# Altium footprint library Connector_Samtec_HLE_SMD.PcbLib: 290 footprints (part 6 of 24)
Each footprint in its own frame and in the unit in brackets; x right, y up, seen from the top. Pads: shape width x height; smd on the part's side, far side on the other; paste and mask are expansions set on the pad; w line width, h text height; cw(c..) or ccw(c..) is an arc to the next point about the centre after c.
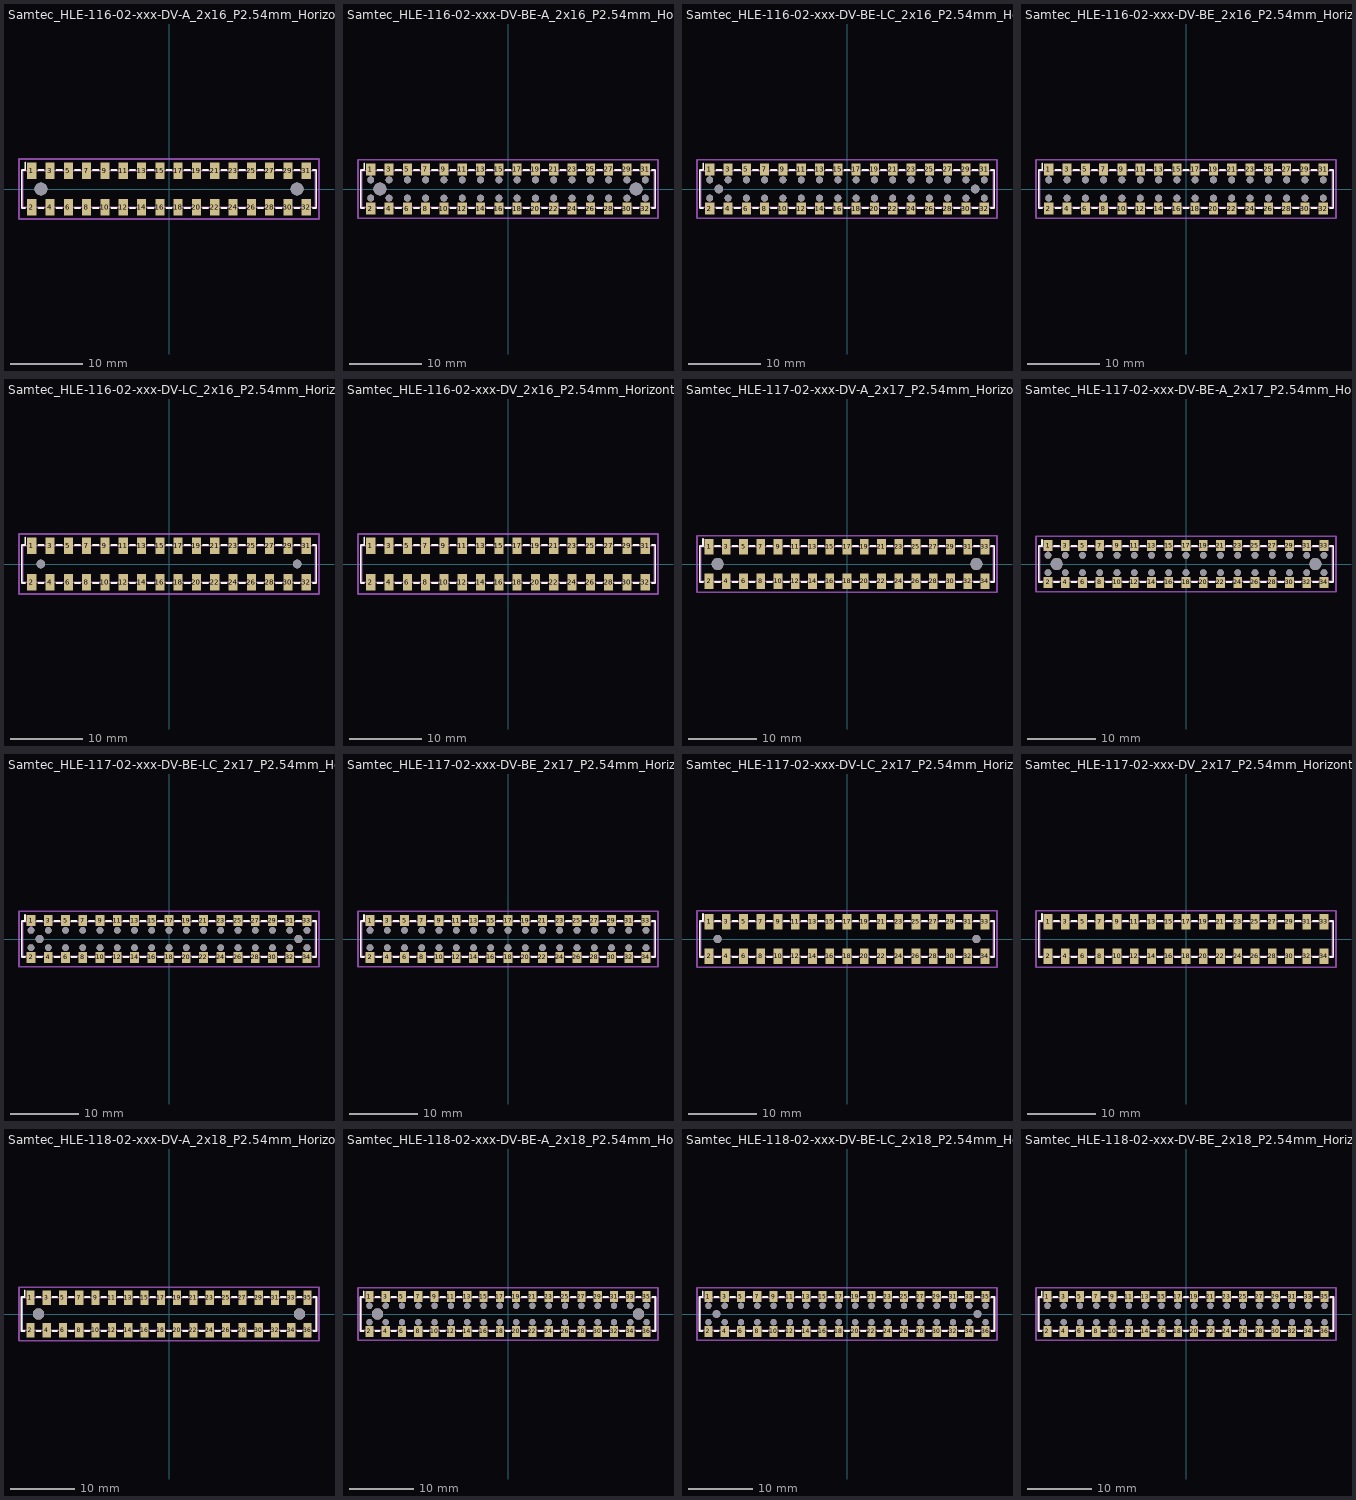
[diagram p5: the footprints below, top view; thin cyan lines are the x and y axes]

## Samtec_HLE-116-02-xxx-DV-A_2x16_P2.54mm_Horizontal [mm]
pads (34):
  rect 1.27x2.29 smd: 1(-19.05,2.525) 2(-19.05,-2.525) 3(-16.51,2.525) 4(-16.51,-2.525) 5(-13.97,2.525) 6(-13.97,-2.525) 7(-11.43,2.525) 8(-11.43,-2.525) 9(-8.89,2.525) 10(-8.89,-2.525) 11(-6.35,2.525) 12(-6.35,-2.525) 13(-3.81,2.525) 14(-3.81,-2.525) 15(-1.27,2.525) 16(-1.27,-2.525) 17(1.27,2.525) 18(1.27,-2.525) 19(3.81,2.525) 20(3.81,-2.525) 21(6.35,2.525) 22(6.35,-2.525) 23(8.89,2.525) 24(8.89,-2.525) 25(11.43,2.525) 26(11.43,-2.525) 27(13.97,2.525) 28(13.97,-2.525) 29(16.51,2.525) 30(16.51,-2.525) 31(19.05,2.525) 32(19.05,-2.525)
  round 1.78 hole 1.78: Un1(-17.78,0) Un2(17.78,0)
F.SilkS:
  lines w0.254: -19.945,-2.65 -20.43,-2.65 -20.43,2.65 -19.945,2.65 -19.945,3.67 ; -18.155,-2.65 -17.405,-2.65 ; -18.155,2.65 -17.405,2.65 ; -15.615,-2.65 -14.865,-2.65 ; -15.615,2.65 -14.865,2.65 ; -13.075,-2.65 -12.325,-2.65 ; -13.075,2.65 -12.325,2.65 ; -10.535,-2.65 -9.785,-2.65 ; -10.535,2.65 -9.785,2.65 ; -7.995,-2.65 -7.245,-2.65 ; -7.995,2.65 -7.245,2.65 ; -5.455,-2.65 -4.705,-2.65 ; -5.455,2.65 -4.705,2.65 ; -2.915,-2.65 -2.165,-2.65 ; -2.915,2.65 -2.165,2.65 ; -0.375,-2.65 0.375,-2.65 ; -0.375,2.65 0.375,2.65 ; 2.165,-2.65 2.915,-2.65 ; 2.165,2.65 2.915,2.65 ; 4.705,-2.65 5.455,-2.65 ; 4.705,2.65 5.455,2.65 ; 7.245,-2.65 7.995,-2.65 ; 7.245,2.65 7.995,2.65 ; 9.785,-2.65 10.535,-2.65 ; 9.785,2.65 10.535,2.65 ; 12.325,-2.65 13.075,-2.65 ; 12.325,2.65 13.075,2.65 ; 14.865,-2.65 15.615,-2.65 ; 14.865,2.65 15.615,2.65 ; 17.405,-2.65 18.155,-2.65 ; 17.405,2.65 18.155,2.65 ; 19.945,-2.65 20.43,-2.65 20.43,2.65 19.945,2.65
Top Assembly:
  lines w0.254: -19.55,2.54 -19.05,1.833 -18.55,2.54 ; -20.32,-2.54 20.32,-2.54 20.32,2.54 -20.32,2.54 -20.32,-2.54
  text "'.Designator'" at -4.047,-2.68 h1
Top Courtyard:
  lines w0.254: -20.82,-4.17 20.82,-4.17 20.82,4.17 -20.82,4.17 -20.82,-4.17
Top Designator:
  text ".Designator" at -7.618,-0.508 h1.52

## Samtec_HLE-116-02-xxx-DV-BE-A_2x16_P2.54mm_Horizontal [mm]
pads (66):
  rect 1.27x1.68 smd: 1(-19.05,2.72) 2(-19.05,-2.72) 3(-16.51,2.72) 4(-16.51,-2.72) 5(-13.97,2.72) 6(-13.97,-2.72) 7(-11.43,2.72) 8(-11.43,-2.72) 9(-8.89,2.72) 10(-8.89,-2.72) 11(-6.35,2.72) 12(-6.35,-2.72) 13(-3.81,2.72) 14(-3.81,-2.72) 15(-1.27,2.72) 16(-1.27,-2.72) 17(1.27,2.72) 18(1.27,-2.72) 19(3.81,2.72) 20(3.81,-2.72) 21(6.35,2.72) 22(6.35,-2.72) 23(8.89,2.72) 24(8.89,-2.72) 25(11.43,2.72) 26(11.43,-2.72) 27(13.97,2.72) 28(13.97,-2.72) 29(16.51,2.72) 30(16.51,-2.72) 31(19.05,2.72) 32(19.05,-2.72)
  round 0.97 hole 0.97: Un1(-19.05,1.27) Un2(-19.05,-1.27) Un4(-16.51,1.27) Un5(-16.51,-1.27) Un6(-13.97,1.27) Un7(-13.97,-1.27) Un8(-11.43,1.27) Un9(-11.43,-1.27) Un10(-8.89,1.27) Un11(-8.89,-1.27) Un12(-6.35,1.27) Un13(-6.35,-1.27) Un14(-3.81,1.27) Un15(-3.81,-1.27) Un16(-1.27,1.27) Un17(-1.27,-1.27) Un18(1.27,1.27) Un19(1.27,-1.27) Un20(3.81,1.27) Un21(3.81,-1.27) Un22(6.35,1.27) Un23(6.35,-1.27) Un24(8.89,1.27) Un25(8.89,-1.27) Un26(11.43,1.27) Un27(11.43,-1.27) Un28(13.97,1.27) Un29(13.97,-1.27) Un30(16.51,1.27) Un31(16.51,-1.27) Un33(19.05,1.27) Un34(19.05,-1.27)
  round 1.78 hole 1.78: Un3(-17.78,0) Un32(17.78,0)
F.SilkS:
  lines w0.254: -19.945,-2.65 -20.43,-2.65 -20.43,2.65 -19.945,2.65 -19.945,3.56 ; -18.155,-2.65 -17.405,-2.65 ; -18.155,2.65 -17.405,2.65 ; -15.615,-2.65 -14.865,-2.65 ; -15.615,2.65 -14.865,2.65 ; -13.075,-2.65 -12.325,-2.65 ; -13.075,2.65 -12.325,2.65 ; -10.535,-2.65 -9.785,-2.65 ; -10.535,2.65 -9.785,2.65 ; -7.995,-2.65 -7.245,-2.65 ; -7.995,2.65 -7.245,2.65 ; -5.455,-2.65 -4.705,-2.65 ; -5.455,2.65 -4.705,2.65 ; -2.915,-2.65 -2.165,-2.65 ; -2.915,2.65 -2.165,2.65 ; -0.375,-2.65 0.375,-2.65 ; -0.375,2.65 0.375,2.65 ; 2.165,-2.65 2.915,-2.65 ; 2.165,2.65 2.915,2.65 ; 4.705,-2.65 5.455,-2.65 ; 4.705,2.65 5.455,2.65 ; 7.245,-2.65 7.995,-2.65 ; 7.245,2.65 7.995,2.65 ; 9.785,-2.65 10.535,-2.65 ; 9.785,2.65 10.535,2.65 ; 12.325,-2.65 13.075,-2.65 ; 12.325,2.65 13.075,2.65 ; 14.865,-2.65 15.615,-2.65 ; 14.865,2.65 15.615,2.65 ; 17.405,-2.65 18.155,-2.65 ; 17.405,2.65 18.155,2.65 ; 19.945,-2.65 20.43,-2.65 20.43,2.65 19.945,2.65
Top Assembly:
  lines w0.254: -19.55,2.54 -19.05,1.833 -18.55,2.54 ; -20.32,-2.54 20.32,-2.54 20.32,2.54 -20.32,2.54 -20.32,-2.54
  text "'.Designator'" at -4.047,-2.68 h1
Top Courtyard:
  lines w0.254: -20.82,-4.07 20.82,-4.07 20.82,4.07 -20.82,4.07 -20.82,-4.07
Top Designator:
  text ".Designator" at -7.618,-0.508 h1.52

## Samtec_HLE-116-02-xxx-DV-BE-LC_2x16_P2.54mm_Horizontal [mm]
pads (66):
  rect 1.27x1.68 smd: 1(-19.05,2.72) 2(-19.05,-2.72) 3(-16.51,2.72) 4(-16.51,-2.72) 5(-13.97,2.72) 6(-13.97,-2.72) 7(-11.43,2.72) 8(-11.43,-2.72) 9(-8.89,2.72) 10(-8.89,-2.72) 11(-6.35,2.72) 12(-6.35,-2.72) 13(-3.81,2.72) 14(-3.81,-2.72) 15(-1.27,2.72) 16(-1.27,-2.72) 17(1.27,2.72) 18(1.27,-2.72) 19(3.81,2.72) 20(3.81,-2.72) 21(6.35,2.72) 22(6.35,-2.72) 23(8.89,2.72) 24(8.89,-2.72) 25(11.43,2.72) 26(11.43,-2.72) 27(13.97,2.72) 28(13.97,-2.72) 29(16.51,2.72) 30(16.51,-2.72) 31(19.05,2.72) 32(19.05,-2.72)
  round 0.97 hole 0.97: Un1(-19.05,1.27) Un2(-19.05,-1.27) Un4(-16.51,1.27) Un5(-16.51,-1.27) Un6(-13.97,1.27) Un7(-13.97,-1.27) Un8(-11.43,1.27) Un9(-11.43,-1.27) Un10(-8.89,1.27) Un11(-8.89,-1.27) Un12(-6.35,1.27) Un13(-6.35,-1.27) Un14(-3.81,1.27) Un15(-3.81,-1.27) Un16(-1.27,1.27) Un17(-1.27,-1.27) Un18(1.27,1.27) Un19(1.27,-1.27) Un20(3.81,1.27) Un21(3.81,-1.27) Un22(6.35,1.27) Un23(6.35,-1.27) Un24(8.89,1.27) Un25(8.89,-1.27) Un26(11.43,1.27) Un27(11.43,-1.27) Un28(13.97,1.27) Un29(13.97,-1.27) Un30(16.51,1.27) Un31(16.51,-1.27) Un33(19.05,1.27) Un34(19.05,-1.27)
  round 1.19 hole 1.19: Un3(-17.78,0) Un32(17.78,0)
F.SilkS:
  lines w0.254: -19.945,-2.65 -20.43,-2.65 -20.43,2.65 -19.945,2.65 -19.945,3.56 ; -18.155,-2.65 -17.405,-2.65 ; -18.155,2.65 -17.405,2.65 ; -15.615,-2.65 -14.865,-2.65 ; -15.615,2.65 -14.865,2.65 ; -13.075,-2.65 -12.325,-2.65 ; -13.075,2.65 -12.325,2.65 ; -10.535,-2.65 -9.785,-2.65 ; -10.535,2.65 -9.785,2.65 ; -7.995,-2.65 -7.245,-2.65 ; -7.995,2.65 -7.245,2.65 ; -5.455,-2.65 -4.705,-2.65 ; -5.455,2.65 -4.705,2.65 ; -2.915,-2.65 -2.165,-2.65 ; -2.915,2.65 -2.165,2.65 ; -0.375,-2.65 0.375,-2.65 ; -0.375,2.65 0.375,2.65 ; 2.165,-2.65 2.915,-2.65 ; 2.165,2.65 2.915,2.65 ; 4.705,-2.65 5.455,-2.65 ; 4.705,2.65 5.455,2.65 ; 7.245,-2.65 7.995,-2.65 ; 7.245,2.65 7.995,2.65 ; 9.785,-2.65 10.535,-2.65 ; 9.785,2.65 10.535,2.65 ; 12.325,-2.65 13.075,-2.65 ; 12.325,2.65 13.075,2.65 ; 14.865,-2.65 15.615,-2.65 ; 14.865,2.65 15.615,2.65 ; 17.405,-2.65 18.155,-2.65 ; 17.405,2.65 18.155,2.65 ; 19.945,-2.65 20.43,-2.65 20.43,2.65 19.945,2.65
Top Assembly:
  lines w0.254: -19.55,2.54 -19.05,1.833 -18.55,2.54 ; -20.32,-2.54 20.32,-2.54 20.32,2.54 -20.32,2.54 -20.32,-2.54
  text "'.Designator'" at -4.047,-2.68 h1
Top Courtyard:
  lines w0.254: -20.82,-4.07 20.82,-4.07 20.82,4.07 -20.82,4.07 -20.82,-4.07
Top Designator:
  text ".Designator" at -7.618,-0.508 h1.52

## Samtec_HLE-116-02-xxx-DV-BE_2x16_P2.54mm_Horizontal [mm]
pads (64):
  rect 1.27x1.68 smd: 1(-19.05,2.72) 2(-19.05,-2.72) 3(-16.51,2.72) 4(-16.51,-2.72) 5(-13.97,2.72) 6(-13.97,-2.72) 7(-11.43,2.72) 8(-11.43,-2.72) 9(-8.89,2.72) 10(-8.89,-2.72) 11(-6.35,2.72) 12(-6.35,-2.72) 13(-3.81,2.72) 14(-3.81,-2.72) 15(-1.27,2.72) 16(-1.27,-2.72) 17(1.27,2.72) 18(1.27,-2.72) 19(3.81,2.72) 20(3.81,-2.72) 21(6.35,2.72) 22(6.35,-2.72) 23(8.89,2.72) 24(8.89,-2.72) 25(11.43,2.72) 26(11.43,-2.72) 27(13.97,2.72) 28(13.97,-2.72) 29(16.51,2.72) 30(16.51,-2.72) 31(19.05,2.72) 32(19.05,-2.72)
  round 0.97 hole 0.97: Un1(-19.05,1.27) Un2(-19.05,-1.27) Un3(-16.51,1.27) Un4(-16.51,-1.27) Un5(-13.97,1.27) Un6(-13.97,-1.27) Un7(-11.43,1.27) Un8(-11.43,-1.27) Un9(-8.89,1.27) Un10(-8.89,-1.27) Un11(-6.35,1.27) Un12(-6.35,-1.27) Un13(-3.81,1.27) Un14(-3.81,-1.27) Un15(-1.27,1.27) Un16(-1.27,-1.27) Un17(1.27,1.27) Un18(1.27,-1.27) Un19(3.81,1.27) Un20(3.81,-1.27) Un21(6.35,1.27) Un22(6.35,-1.27) Un23(8.89,1.27) Un24(8.89,-1.27) Un25(11.43,1.27) Un26(11.43,-1.27) Un27(13.97,1.27) Un28(13.97,-1.27) Un29(16.51,1.27) Un30(16.51,-1.27) Un31(19.05,1.27) Un32(19.05,-1.27)
F.SilkS:
  lines w0.254: -19.945,-2.65 -20.43,-2.65 -20.43,2.65 -19.945,2.65 -19.945,3.56 ; -18.155,-2.65 -17.405,-2.65 ; -18.155,2.65 -17.405,2.65 ; -15.615,-2.65 -14.865,-2.65 ; -15.615,2.65 -14.865,2.65 ; -13.075,-2.65 -12.325,-2.65 ; -13.075,2.65 -12.325,2.65 ; -10.535,-2.65 -9.785,-2.65 ; -10.535,2.65 -9.785,2.65 ; -7.995,-2.65 -7.245,-2.65 ; -7.995,2.65 -7.245,2.65 ; -5.455,-2.65 -4.705,-2.65 ; -5.455,2.65 -4.705,2.65 ; -2.915,-2.65 -2.165,-2.65 ; -2.915,2.65 -2.165,2.65 ; -0.375,-2.65 0.375,-2.65 ; -0.375,2.65 0.375,2.65 ; 2.165,-2.65 2.915,-2.65 ; 2.165,2.65 2.915,2.65 ; 4.705,-2.65 5.455,-2.65 ; 4.705,2.65 5.455,2.65 ; 7.245,-2.65 7.995,-2.65 ; 7.245,2.65 7.995,2.65 ; 9.785,-2.65 10.535,-2.65 ; 9.785,2.65 10.535,2.65 ; 12.325,-2.65 13.075,-2.65 ; 12.325,2.65 13.075,2.65 ; 14.865,-2.65 15.615,-2.65 ; 14.865,2.65 15.615,2.65 ; 17.405,-2.65 18.155,-2.65 ; 17.405,2.65 18.155,2.65 ; 19.945,-2.65 20.43,-2.65 20.43,2.65 19.945,2.65
Top Assembly:
  lines w0.254: -19.55,2.54 -19.05,1.833 -18.55,2.54 ; -20.32,-2.54 20.32,-2.54 20.32,2.54 -20.32,2.54 -20.32,-2.54
  text "'.Designator'" at -4.047,-2.68 h1
Top Courtyard:
  lines w0.254: -20.82,-4.07 20.82,-4.07 20.82,4.07 -20.82,4.07 -20.82,-4.07
Top Designator:
  text ".Designator" at -7.618,-0.508 h1.52

## Samtec_HLE-116-02-xxx-DV-LC_2x16_P2.54mm_Horizontal [mm]
pads (34):
  rect 1.27x2.29 smd: 1(-19.05,2.525) 2(-19.05,-2.525) 3(-16.51,2.525) 4(-16.51,-2.525) 5(-13.97,2.525) 6(-13.97,-2.525) 7(-11.43,2.525) 8(-11.43,-2.525) 9(-8.89,2.525) 10(-8.89,-2.525) 11(-6.35,2.525) 12(-6.35,-2.525) 13(-3.81,2.525) 14(-3.81,-2.525) 15(-1.27,2.525) 16(-1.27,-2.525) 17(1.27,2.525) 18(1.27,-2.525) 19(3.81,2.525) 20(3.81,-2.525) 21(6.35,2.525) 22(6.35,-2.525) 23(8.89,2.525) 24(8.89,-2.525) 25(11.43,2.525) 26(11.43,-2.525) 27(13.97,2.525) 28(13.97,-2.525) 29(16.51,2.525) 30(16.51,-2.525) 31(19.05,2.525) 32(19.05,-2.525)
  round 1.19 hole 1.19: Un1(-17.78,0) Un2(17.78,0)
F.SilkS:
  lines w0.254: -19.945,-2.65 -20.43,-2.65 -20.43,2.65 -19.945,2.65 -19.945,3.67 ; -18.155,-2.65 -17.405,-2.65 ; -18.155,2.65 -17.405,2.65 ; -15.615,-2.65 -14.865,-2.65 ; -15.615,2.65 -14.865,2.65 ; -13.075,-2.65 -12.325,-2.65 ; -13.075,2.65 -12.325,2.65 ; -10.535,-2.65 -9.785,-2.65 ; -10.535,2.65 -9.785,2.65 ; -7.995,-2.65 -7.245,-2.65 ; -7.995,2.65 -7.245,2.65 ; -5.455,-2.65 -4.705,-2.65 ; -5.455,2.65 -4.705,2.65 ; -2.915,-2.65 -2.165,-2.65 ; -2.915,2.65 -2.165,2.65 ; -0.375,-2.65 0.375,-2.65 ; -0.375,2.65 0.375,2.65 ; 2.165,-2.65 2.915,-2.65 ; 2.165,2.65 2.915,2.65 ; 4.705,-2.65 5.455,-2.65 ; 4.705,2.65 5.455,2.65 ; 7.245,-2.65 7.995,-2.65 ; 7.245,2.65 7.995,2.65 ; 9.785,-2.65 10.535,-2.65 ; 9.785,2.65 10.535,2.65 ; 12.325,-2.65 13.075,-2.65 ; 12.325,2.65 13.075,2.65 ; 14.865,-2.65 15.615,-2.65 ; 14.865,2.65 15.615,2.65 ; 17.405,-2.65 18.155,-2.65 ; 17.405,2.65 18.155,2.65 ; 19.945,-2.65 20.43,-2.65 20.43,2.65 19.945,2.65
Top Assembly:
  lines w0.254: -19.55,2.54 -19.05,1.833 -18.55,2.54 ; -20.32,-2.54 20.32,-2.54 20.32,2.54 -20.32,2.54 -20.32,-2.54
  text "'.Designator'" at -4.047,-2.68 h1
Top Courtyard:
  lines w0.254: -20.82,-4.17 20.82,-4.17 20.82,4.17 -20.82,4.17 -20.82,-4.17
Top Designator:
  text ".Designator" at -7.618,-0.508 h1.52

## Samtec_HLE-116-02-xxx-DV_2x16_P2.54mm_Horizontal [mm]
pads (32):
  rect 1.27x2.29 smd: 1(-19.05,2.525) 2(-19.05,-2.525) 3(-16.51,2.525) 4(-16.51,-2.525) 5(-13.97,2.525) 6(-13.97,-2.525) 7(-11.43,2.525) 8(-11.43,-2.525) 9(-8.89,2.525) 10(-8.89,-2.525) 11(-6.35,2.525) 12(-6.35,-2.525) 13(-3.81,2.525) 14(-3.81,-2.525) 15(-1.27,2.525) 16(-1.27,-2.525) 17(1.27,2.525) 18(1.27,-2.525) 19(3.81,2.525) 20(3.81,-2.525) 21(6.35,2.525) 22(6.35,-2.525) 23(8.89,2.525) 24(8.89,-2.525) 25(11.43,2.525) 26(11.43,-2.525) 27(13.97,2.525) 28(13.97,-2.525) 29(16.51,2.525) 30(16.51,-2.525) 31(19.05,2.525) 32(19.05,-2.525)
F.SilkS:
  lines w0.254: -19.945,-2.65 -20.43,-2.65 -20.43,2.65 -19.945,2.65 -19.945,3.67 ; -18.155,-2.65 -17.405,-2.65 ; -18.155,2.65 -17.405,2.65 ; -15.615,-2.65 -14.865,-2.65 ; -15.615,2.65 -14.865,2.65 ; -13.075,-2.65 -12.325,-2.65 ; -13.075,2.65 -12.325,2.65 ; -10.535,-2.65 -9.785,-2.65 ; -10.535,2.65 -9.785,2.65 ; -7.995,-2.65 -7.245,-2.65 ; -7.995,2.65 -7.245,2.65 ; -5.455,-2.65 -4.705,-2.65 ; -5.455,2.65 -4.705,2.65 ; -2.915,-2.65 -2.165,-2.65 ; -2.915,2.65 -2.165,2.65 ; -0.375,-2.65 0.375,-2.65 ; -0.375,2.65 0.375,2.65 ; 2.165,-2.65 2.915,-2.65 ; 2.165,2.65 2.915,2.65 ; 4.705,-2.65 5.455,-2.65 ; 4.705,2.65 5.455,2.65 ; 7.245,-2.65 7.995,-2.65 ; 7.245,2.65 7.995,2.65 ; 9.785,-2.65 10.535,-2.65 ; 9.785,2.65 10.535,2.65 ; 12.325,-2.65 13.075,-2.65 ; 12.325,2.65 13.075,2.65 ; 14.865,-2.65 15.615,-2.65 ; 14.865,2.65 15.615,2.65 ; 17.405,-2.65 18.155,-2.65 ; 17.405,2.65 18.155,2.65 ; 19.945,-2.65 20.43,-2.65 20.43,2.65 19.945,2.65
Top Assembly:
  lines w0.254: -19.55,2.54 -19.05,1.833 -18.55,2.54 ; -20.32,-2.54 20.32,-2.54 20.32,2.54 -20.32,2.54 -20.32,-2.54
  text "'.Designator'" at -4.047,-2.68 h1
Top Courtyard:
  lines w0.254: -20.82,-4.17 20.82,-4.17 20.82,4.17 -20.82,4.17 -20.82,-4.17
Top Designator:
  text ".Designator" at -7.618,-0.508 h1.52

## Samtec_HLE-117-02-xxx-DV-A_2x17_P2.54mm_Horizontal [mm]
pads (36):
  rect 1.27x2.29 smd: 1(-20.32,2.525) 2(-20.32,-2.525) 3(-17.78,2.525) 4(-17.78,-2.525) 5(-15.24,2.525) 6(-15.24,-2.525) 7(-12.7,2.525) 8(-12.7,-2.525) 9(-10.16,2.525) 10(-10.16,-2.525) 11(-7.62,2.525) 12(-7.62,-2.525) 13(-5.08,2.525) 14(-5.08,-2.525) 15(-2.54,2.525) 16(-2.54,-2.525) 17(0,2.525) 18(0,-2.525) 19(2.54,2.525) 20(2.54,-2.525) 21(5.08,2.525) 22(5.08,-2.525) 23(7.62,2.525) 24(7.62,-2.525) 25(10.16,2.525) 26(10.16,-2.525) 27(12.7,2.525) 28(12.7,-2.525) 29(15.24,2.525) 30(15.24,-2.525) 31(17.78,2.525) 32(17.78,-2.525) 33(20.32,2.525) 34(20.32,-2.525)
  round 1.78 hole 1.78: Un1(-19.05,0) Un2(19.05,0)
F.SilkS:
  lines w0.254: -21.215,-2.65 -21.7,-2.65 -21.7,2.65 -21.215,2.65 -21.215,3.67 ; -19.425,-2.65 -18.675,-2.65 ; -19.425,2.65 -18.675,2.65 ; -16.885,-2.65 -16.135,-2.65 ; -16.885,2.65 -16.135,2.65 ; -14.345,-2.65 -13.595,-2.65 ; -14.345,2.65 -13.595,2.65 ; -11.805,-2.65 -11.055,-2.65 ; -11.805,2.65 -11.055,2.65 ; -9.265,-2.65 -8.515,-2.65 ; -9.265,2.65 -8.515,2.65 ; -6.725,-2.65 -5.975,-2.65 ; -6.725,2.65 -5.975,2.65 ; -4.185,-2.65 -3.435,-2.65 ; -4.185,2.65 -3.435,2.65 ; -1.645,-2.65 -0.895,-2.65 ; -1.645,2.65 -0.895,2.65 ; 0.895,-2.65 1.645,-2.65 ; 0.895,2.65 1.645,2.65 ; 3.435,-2.65 4.185,-2.65 ; 3.435,2.65 4.185,2.65 ; 5.975,-2.65 6.725,-2.65 ; 5.975,2.65 6.725,2.65 ; 8.515,-2.65 9.265,-2.65 ; 8.515,2.65 9.265,2.65 ; 11.055,-2.65 11.805,-2.65 ; 11.055,2.65 11.805,2.65 ; 13.595,-2.65 14.345,-2.65 ; 13.595,2.65 14.345,2.65 ; 16.135,-2.65 16.885,-2.65 ; 16.135,2.65 16.885,2.65 ; 18.675,-2.65 19.425,-2.65 ; 18.675,2.65 19.425,2.65 ; 21.215,-2.65 21.7,-2.65 21.7,2.65 21.215,2.65
Top Assembly:
  lines w0.254: -20.82,2.54 -20.32,1.833 -19.82,2.54 ; -21.59,-2.54 21.59,-2.54 21.59,2.54 -21.59,2.54 -21.59,-2.54
  text "'.Designator'" at -4.047,-2.68 h1
Top Courtyard:
  lines w0.254: -22.09,-4.17 22.09,-4.17 22.09,4.17 -22.09,4.17 -22.09,-4.17
Top Designator:
  text ".Designator" at -7.618,-0.508 h1.52

## Samtec_HLE-117-02-xxx-DV-BE-A_2x17_P2.54mm_Horizontal [mm]
pads (70):
  rect 1.27x1.68 smd: 1(-20.32,2.72) 2(-20.32,-2.72) 3(-17.78,2.72) 4(-17.78,-2.72) 5(-15.24,2.72) 6(-15.24,-2.72) 7(-12.7,2.72) 8(-12.7,-2.72) 9(-10.16,2.72) 10(-10.16,-2.72) 11(-7.62,2.72) 12(-7.62,-2.72) 13(-5.08,2.72) 14(-5.08,-2.72) 15(-2.54,2.72) 16(-2.54,-2.72) 17(0,2.72) 18(0,-2.72) 19(2.54,2.72) 20(2.54,-2.72) 21(5.08,2.72) 22(5.08,-2.72) 23(7.62,2.72) 24(7.62,-2.72) 25(10.16,2.72) 26(10.16,-2.72) 27(12.7,2.72) 28(12.7,-2.72) 29(15.24,2.72) 30(15.24,-2.72) 31(17.78,2.72) 32(17.78,-2.72) 33(20.32,2.72) 34(20.32,-2.72)
  round 0.97 hole 0.97: Un1(-20.32,1.27) Un2(-20.32,-1.27) Un4(-17.78,1.27) Un5(-17.78,-1.27) Un6(-15.24,1.27) Un7(-15.24,-1.27) Un8(-12.7,1.27) Un9(-12.7,-1.27) Un10(-10.16,1.27) Un11(-10.16,-1.27) Un12(-7.62,1.27) Un13(-7.62,-1.27) Un14(-5.08,1.27) Un15(-5.08,-1.27) Un16(-2.54,1.27) Un17(-2.54,-1.27) Un18(0,1.27) Un19(0,-1.27) Un20(2.54,1.27) Un21(2.54,-1.27) Un22(5.08,1.27) Un23(5.08,-1.27) Un24(7.62,1.27) Un25(7.62,-1.27) Un26(10.16,1.27) Un27(10.16,-1.27) Un28(12.7,1.27) Un29(12.7,-1.27) Un30(15.24,1.27) Un31(15.24,-1.27) Un32(17.78,1.27) Un33(17.78,-1.27) Un35(20.32,1.27) Un36(20.32,-1.27)
  round 1.78 hole 1.78: Un3(-19.05,0) Un34(19.05,0)
F.SilkS:
  lines w0.254: -21.215,-2.65 -21.7,-2.65 -21.7,2.65 -21.215,2.65 -21.215,3.56 ; -19.425,-2.65 -18.675,-2.65 ; -19.425,2.65 -18.675,2.65 ; -16.885,-2.65 -16.135,-2.65 ; -16.885,2.65 -16.135,2.65 ; -14.345,-2.65 -13.595,-2.65 ; -14.345,2.65 -13.595,2.65 ; -11.805,-2.65 -11.055,-2.65 ; -11.805,2.65 -11.055,2.65 ; -9.265,-2.65 -8.515,-2.65 ; -9.265,2.65 -8.515,2.65 ; -6.725,-2.65 -5.975,-2.65 ; -6.725,2.65 -5.975,2.65 ; -4.185,-2.65 -3.435,-2.65 ; -4.185,2.65 -3.435,2.65 ; -1.645,-2.65 -0.895,-2.65 ; -1.645,2.65 -0.895,2.65 ; 0.895,-2.65 1.645,-2.65 ; 0.895,2.65 1.645,2.65 ; 3.435,-2.65 4.185,-2.65 ; 3.435,2.65 4.185,2.65 ; 5.975,-2.65 6.725,-2.65 ; 5.975,2.65 6.725,2.65 ; 8.515,-2.65 9.265,-2.65 ; 8.515,2.65 9.265,2.65 ; 11.055,-2.65 11.805,-2.65 ; 11.055,2.65 11.805,2.65 ; 13.595,-2.65 14.345,-2.65 ; 13.595,2.65 14.345,2.65 ; 16.135,-2.65 16.885,-2.65 ; 16.135,2.65 16.885,2.65 ; 18.675,-2.65 19.425,-2.65 ; 18.675,2.65 19.425,2.65 ; 21.215,-2.65 21.7,-2.65 21.7,2.65 21.215,2.65
Top Assembly:
  lines w0.254: -20.82,2.54 -20.32,1.833 -19.82,2.54 ; -21.59,-2.54 21.59,-2.54 21.59,2.54 -21.59,2.54 -21.59,-2.54
  text "'.Designator'" at -4.047,-2.68 h1
Top Courtyard:
  lines w0.254: -22.09,-4.07 22.09,-4.07 22.09,4.07 -22.09,4.07 -22.09,-4.07
Top Designator:
  text ".Designator" at -7.618,-0.508 h1.52

## Samtec_HLE-117-02-xxx-DV-BE-LC_2x17_P2.54mm_Horizontal [mm]
pads (70):
  rect 1.27x1.68 smd: 1(-20.32,2.72) 2(-20.32,-2.72) 3(-17.78,2.72) 4(-17.78,-2.72) 5(-15.24,2.72) 6(-15.24,-2.72) 7(-12.7,2.72) 8(-12.7,-2.72) 9(-10.16,2.72) 10(-10.16,-2.72) 11(-7.62,2.72) 12(-7.62,-2.72) 13(-5.08,2.72) 14(-5.08,-2.72) 15(-2.54,2.72) 16(-2.54,-2.72) 17(0,2.72) 18(0,-2.72) 19(2.54,2.72) 20(2.54,-2.72) 21(5.08,2.72) 22(5.08,-2.72) 23(7.62,2.72) 24(7.62,-2.72) 25(10.16,2.72) 26(10.16,-2.72) 27(12.7,2.72) 28(12.7,-2.72) 29(15.24,2.72) 30(15.24,-2.72) 31(17.78,2.72) 32(17.78,-2.72) 33(20.32,2.72) 34(20.32,-2.72)
  round 0.97 hole 0.97: Un1(-20.32,1.27) Un2(-20.32,-1.27) Un4(-17.78,1.27) Un5(-17.78,-1.27) Un6(-15.24,1.27) Un7(-15.24,-1.27) Un8(-12.7,1.27) Un9(-12.7,-1.27) Un10(-10.16,1.27) Un11(-10.16,-1.27) Un12(-7.62,1.27) Un13(-7.62,-1.27) Un14(-5.08,1.27) Un15(-5.08,-1.27) Un16(-2.54,1.27) Un17(-2.54,-1.27) Un18(0,1.27) Un19(0,-1.27) Un20(2.54,1.27) Un21(2.54,-1.27) Un22(5.08,1.27) Un23(5.08,-1.27) Un24(7.62,1.27) Un25(7.62,-1.27) Un26(10.16,1.27) Un27(10.16,-1.27) Un28(12.7,1.27) Un29(12.7,-1.27) Un30(15.24,1.27) Un31(15.24,-1.27) Un32(17.78,1.27) Un33(17.78,-1.27) Un35(20.32,1.27) Un36(20.32,-1.27)
  round 1.19 hole 1.19: Un3(-19.05,0) Un34(19.05,0)
F.SilkS:
  lines w0.254: -21.215,-2.65 -21.7,-2.65 -21.7,2.65 -21.215,2.65 -21.215,3.56 ; -19.425,-2.65 -18.675,-2.65 ; -19.425,2.65 -18.675,2.65 ; -16.885,-2.65 -16.135,-2.65 ; -16.885,2.65 -16.135,2.65 ; -14.345,-2.65 -13.595,-2.65 ; -14.345,2.65 -13.595,2.65 ; -11.805,-2.65 -11.055,-2.65 ; -11.805,2.65 -11.055,2.65 ; -9.265,-2.65 -8.515,-2.65 ; -9.265,2.65 -8.515,2.65 ; -6.725,-2.65 -5.975,-2.65 ; -6.725,2.65 -5.975,2.65 ; -4.185,-2.65 -3.435,-2.65 ; -4.185,2.65 -3.435,2.65 ; -1.645,-2.65 -0.895,-2.65 ; -1.645,2.65 -0.895,2.65 ; 0.895,-2.65 1.645,-2.65 ; 0.895,2.65 1.645,2.65 ; 3.435,-2.65 4.185,-2.65 ; 3.435,2.65 4.185,2.65 ; 5.975,-2.65 6.725,-2.65 ; 5.975,2.65 6.725,2.65 ; 8.515,-2.65 9.265,-2.65 ; 8.515,2.65 9.265,2.65 ; 11.055,-2.65 11.805,-2.65 ; 11.055,2.65 11.805,2.65 ; 13.595,-2.65 14.345,-2.65 ; 13.595,2.65 14.345,2.65 ; 16.135,-2.65 16.885,-2.65 ; 16.135,2.65 16.885,2.65 ; 18.675,-2.65 19.425,-2.65 ; 18.675,2.65 19.425,2.65 ; 21.215,-2.65 21.7,-2.65 21.7,2.65 21.215,2.65
Top Assembly:
  lines w0.254: -20.82,2.54 -20.32,1.833 -19.82,2.54 ; -21.59,-2.54 21.59,-2.54 21.59,2.54 -21.59,2.54 -21.59,-2.54
  text "'.Designator'" at -4.047,-2.68 h1
Top Courtyard:
  lines w0.254: -22.09,-4.07 22.09,-4.07 22.09,4.07 -22.09,4.07 -22.09,-4.07
Top Designator:
  text ".Designator" at -7.618,-0.508 h1.52

## Samtec_HLE-117-02-xxx-DV-BE_2x17_P2.54mm_Horizontal [mm]
pads (68):
  rect 1.27x1.68 smd: 1(-20.32,2.72) 2(-20.32,-2.72) 3(-17.78,2.72) 4(-17.78,-2.72) 5(-15.24,2.72) 6(-15.24,-2.72) 7(-12.7,2.72) 8(-12.7,-2.72) 9(-10.16,2.72) 10(-10.16,-2.72) 11(-7.62,2.72) 12(-7.62,-2.72) 13(-5.08,2.72) 14(-5.08,-2.72) 15(-2.54,2.72) 16(-2.54,-2.72) 17(0,2.72) 18(0,-2.72) 19(2.54,2.72) 20(2.54,-2.72) 21(5.08,2.72) 22(5.08,-2.72) 23(7.62,2.72) 24(7.62,-2.72) 25(10.16,2.72) 26(10.16,-2.72) 27(12.7,2.72) 28(12.7,-2.72) 29(15.24,2.72) 30(15.24,-2.72) 31(17.78,2.72) 32(17.78,-2.72) 33(20.32,2.72) 34(20.32,-2.72)
  round 0.97 hole 0.97: Un1(-20.32,1.27) Un2(-20.32,-1.27) Un3(-17.78,1.27) Un4(-17.78,-1.27) Un5(-15.24,1.27) Un6(-15.24,-1.27) Un7(-12.7,1.27) Un8(-12.7,-1.27) Un9(-10.16,1.27) Un10(-10.16,-1.27) Un11(-7.62,1.27) Un12(-7.62,-1.27) Un13(-5.08,1.27) Un14(-5.08,-1.27) Un15(-2.54,1.27) Un16(-2.54,-1.27) Un17(0,1.27) Un18(0,-1.27) Un19(2.54,1.27) Un20(2.54,-1.27) Un21(5.08,1.27) Un22(5.08,-1.27) Un23(7.62,1.27) Un24(7.62,-1.27) Un25(10.16,1.27) Un26(10.16,-1.27) Un27(12.7,1.27) Un28(12.7,-1.27) Un29(15.24,1.27) Un30(15.24,-1.27) Un31(17.78,1.27) Un32(17.78,-1.27) Un33(20.32,1.27) Un34(20.32,-1.27)
F.SilkS:
  lines w0.254: -21.215,-2.65 -21.7,-2.65 -21.7,2.65 -21.215,2.65 -21.215,3.56 ; -19.425,-2.65 -18.675,-2.65 ; -19.425,2.65 -18.675,2.65 ; -16.885,-2.65 -16.135,-2.65 ; -16.885,2.65 -16.135,2.65 ; -14.345,-2.65 -13.595,-2.65 ; -14.345,2.65 -13.595,2.65 ; -11.805,-2.65 -11.055,-2.65 ; -11.805,2.65 -11.055,2.65 ; -9.265,-2.65 -8.515,-2.65 ; -9.265,2.65 -8.515,2.65 ; -6.725,-2.65 -5.975,-2.65 ; -6.725,2.65 -5.975,2.65 ; -4.185,-2.65 -3.435,-2.65 ; -4.185,2.65 -3.435,2.65 ; -1.645,-2.65 -0.895,-2.65 ; -1.645,2.65 -0.895,2.65 ; 0.895,-2.65 1.645,-2.65 ; 0.895,2.65 1.645,2.65 ; 3.435,-2.65 4.185,-2.65 ; 3.435,2.65 4.185,2.65 ; 5.975,-2.65 6.725,-2.65 ; 5.975,2.65 6.725,2.65 ; 8.515,-2.65 9.265,-2.65 ; 8.515,2.65 9.265,2.65 ; 11.055,-2.65 11.805,-2.65 ; 11.055,2.65 11.805,2.65 ; 13.595,-2.65 14.345,-2.65 ; 13.595,2.65 14.345,2.65 ; 16.135,-2.65 16.885,-2.65 ; 16.135,2.65 16.885,2.65 ; 18.675,-2.65 19.425,-2.65 ; 18.675,2.65 19.425,2.65 ; 21.215,-2.65 21.7,-2.65 21.7,2.65 21.215,2.65
Top Assembly:
  lines w0.254: -20.82,2.54 -20.32,1.833 -19.82,2.54 ; -21.59,-2.54 21.59,-2.54 21.59,2.54 -21.59,2.54 -21.59,-2.54
  text "'.Designator'" at -4.047,-2.68 h1
Top Courtyard:
  lines w0.254: -22.09,-4.07 22.09,-4.07 22.09,4.07 -22.09,4.07 -22.09,-4.07
Top Designator:
  text ".Designator" at -7.618,-0.508 h1.52

## Samtec_HLE-117-02-xxx-DV-LC_2x17_P2.54mm_Horizontal [mm]
pads (36):
  rect 1.27x2.29 smd: 1(-20.32,2.525) 2(-20.32,-2.525) 3(-17.78,2.525) 4(-17.78,-2.525) 5(-15.24,2.525) 6(-15.24,-2.525) 7(-12.7,2.525) 8(-12.7,-2.525) 9(-10.16,2.525) 10(-10.16,-2.525) 11(-7.62,2.525) 12(-7.62,-2.525) 13(-5.08,2.525) 14(-5.08,-2.525) 15(-2.54,2.525) 16(-2.54,-2.525) 17(0,2.525) 18(0,-2.525) 19(2.54,2.525) 20(2.54,-2.525) 21(5.08,2.525) 22(5.08,-2.525) 23(7.62,2.525) 24(7.62,-2.525) 25(10.16,2.525) 26(10.16,-2.525) 27(12.7,2.525) 28(12.7,-2.525) 29(15.24,2.525) 30(15.24,-2.525) 31(17.78,2.525) 32(17.78,-2.525) 33(20.32,2.525) 34(20.32,-2.525)
  round 1.19 hole 1.19: Un1(-19.05,0) Un2(19.05,0)
F.SilkS:
  lines w0.254: -21.215,-2.65 -21.7,-2.65 -21.7,2.65 -21.215,2.65 -21.215,3.67 ; -19.425,-2.65 -18.675,-2.65 ; -19.425,2.65 -18.675,2.65 ; -16.885,-2.65 -16.135,-2.65 ; -16.885,2.65 -16.135,2.65 ; -14.345,-2.65 -13.595,-2.65 ; -14.345,2.65 -13.595,2.65 ; -11.805,-2.65 -11.055,-2.65 ; -11.805,2.65 -11.055,2.65 ; -9.265,-2.65 -8.515,-2.65 ; -9.265,2.65 -8.515,2.65 ; -6.725,-2.65 -5.975,-2.65 ; -6.725,2.65 -5.975,2.65 ; -4.185,-2.65 -3.435,-2.65 ; -4.185,2.65 -3.435,2.65 ; -1.645,-2.65 -0.895,-2.65 ; -1.645,2.65 -0.895,2.65 ; 0.895,-2.65 1.645,-2.65 ; 0.895,2.65 1.645,2.65 ; 3.435,-2.65 4.185,-2.65 ; 3.435,2.65 4.185,2.65 ; 5.975,-2.65 6.725,-2.65 ; 5.975,2.65 6.725,2.65 ; 8.515,-2.65 9.265,-2.65 ; 8.515,2.65 9.265,2.65 ; 11.055,-2.65 11.805,-2.65 ; 11.055,2.65 11.805,2.65 ; 13.595,-2.65 14.345,-2.65 ; 13.595,2.65 14.345,2.65 ; 16.135,-2.65 16.885,-2.65 ; 16.135,2.65 16.885,2.65 ; 18.675,-2.65 19.425,-2.65 ; 18.675,2.65 19.425,2.65 ; 21.215,-2.65 21.7,-2.65 21.7,2.65 21.215,2.65
Top Assembly:
  lines w0.254: -20.82,2.54 -20.32,1.833 -19.82,2.54 ; -21.59,-2.54 21.59,-2.54 21.59,2.54 -21.59,2.54 -21.59,-2.54
  text "'.Designator'" at -4.047,-2.68 h1
Top Courtyard:
  lines w0.254: -22.09,-4.17 22.09,-4.17 22.09,4.17 -22.09,4.17 -22.09,-4.17
Top Designator:
  text ".Designator" at -7.618,-0.508 h1.52

## Samtec_HLE-117-02-xxx-DV_2x17_P2.54mm_Horizontal [mm]
pads (34):
  rect 1.27x2.29 smd: 1(-20.32,2.525) 2(-20.32,-2.525) 3(-17.78,2.525) 4(-17.78,-2.525) 5(-15.24,2.525) 6(-15.24,-2.525) 7(-12.7,2.525) 8(-12.7,-2.525) 9(-10.16,2.525) 10(-10.16,-2.525) 11(-7.62,2.525) 12(-7.62,-2.525) 13(-5.08,2.525) 14(-5.08,-2.525) 15(-2.54,2.525) 16(-2.54,-2.525) 17(0,2.525) 18(0,-2.525) 19(2.54,2.525) 20(2.54,-2.525) 21(5.08,2.525) 22(5.08,-2.525) 23(7.62,2.525) 24(7.62,-2.525) 25(10.16,2.525) 26(10.16,-2.525) 27(12.7,2.525) 28(12.7,-2.525) 29(15.24,2.525) 30(15.24,-2.525) 31(17.78,2.525) 32(17.78,-2.525) 33(20.32,2.525) 34(20.32,-2.525)
F.SilkS:
  lines w0.254: -21.215,-2.65 -21.7,-2.65 -21.7,2.65 -21.215,2.65 -21.215,3.67 ; -19.425,-2.65 -18.675,-2.65 ; -19.425,2.65 -18.675,2.65 ; -16.885,-2.65 -16.135,-2.65 ; -16.885,2.65 -16.135,2.65 ; -14.345,-2.65 -13.595,-2.65 ; -14.345,2.65 -13.595,2.65 ; -11.805,-2.65 -11.055,-2.65 ; -11.805,2.65 -11.055,2.65 ; -9.265,-2.65 -8.515,-2.65 ; -9.265,2.65 -8.515,2.65 ; -6.725,-2.65 -5.975,-2.65 ; -6.725,2.65 -5.975,2.65 ; -4.185,-2.65 -3.435,-2.65 ; -4.185,2.65 -3.435,2.65 ; -1.645,-2.65 -0.895,-2.65 ; -1.645,2.65 -0.895,2.65 ; 0.895,-2.65 1.645,-2.65 ; 0.895,2.65 1.645,2.65 ; 3.435,-2.65 4.185,-2.65 ; 3.435,2.65 4.185,2.65 ; 5.975,-2.65 6.725,-2.65 ; 5.975,2.65 6.725,2.65 ; 8.515,-2.65 9.265,-2.65 ; 8.515,2.65 9.265,2.65 ; 11.055,-2.65 11.805,-2.65 ; 11.055,2.65 11.805,2.65 ; 13.595,-2.65 14.345,-2.65 ; 13.595,2.65 14.345,2.65 ; 16.135,-2.65 16.885,-2.65 ; 16.135,2.65 16.885,2.65 ; 18.675,-2.65 19.425,-2.65 ; 18.675,2.65 19.425,2.65 ; 21.215,-2.65 21.7,-2.65 21.7,2.65 21.215,2.65
Top Assembly:
  lines w0.254: -20.82,2.54 -20.32,1.833 -19.82,2.54 ; -21.59,-2.54 21.59,-2.54 21.59,2.54 -21.59,2.54 -21.59,-2.54
  text "'.Designator'" at -4.047,-2.68 h1
Top Courtyard:
  lines w0.254: -22.09,-4.17 22.09,-4.17 22.09,4.17 -22.09,4.17 -22.09,-4.17
Top Designator:
  text ".Designator" at -7.618,-0.508 h1.52

## Samtec_HLE-118-02-xxx-DV-A_2x18_P2.54mm_Horizontal [mm]
pads (38):
  rect 1.27x2.29 smd: 1(-21.59,2.525) 2(-21.59,-2.525) 3(-19.05,2.525) 4(-19.05,-2.525) 5(-16.51,2.525) 6(-16.51,-2.525) 7(-13.97,2.525) 8(-13.97,-2.525) 9(-11.43,2.525) 10(-11.43,-2.525) 11(-8.89,2.525) 12(-8.89,-2.525) 13(-6.35,2.525) 14(-6.35,-2.525) 15(-3.81,2.525) 16(-3.81,-2.525) 17(-1.27,2.525) 18(-1.27,-2.525) 19(1.27,2.525) 20(1.27,-2.525) 21(3.81,2.525) 22(3.81,-2.525) 23(6.35,2.525) 24(6.35,-2.525) 25(8.89,2.525) 26(8.89,-2.525) 27(11.43,2.525) 28(11.43,-2.525) 29(13.97,2.525) 30(13.97,-2.525) 31(16.51,2.525) 32(16.51,-2.525) 33(19.05,2.525) 34(19.05,-2.525) 35(21.59,2.525) 36(21.59,-2.525)
  round 1.78 hole 1.78: Un1(-20.32,0) Un2(20.32,0)
F.SilkS:
  lines w0.254: -22.485,-2.65 -22.97,-2.65 -22.97,2.65 -22.485,2.65 -22.485,3.67 ; -20.695,-2.65 -19.945,-2.65 ; -20.695,2.65 -19.945,2.65 ; -18.155,-2.65 -17.405,-2.65 ; -18.155,2.65 -17.405,2.65 ; -15.615,-2.65 -14.865,-2.65 ; -15.615,2.65 -14.865,2.65 ; -13.075,-2.65 -12.325,-2.65 ; -13.075,2.65 -12.325,2.65 ; -10.535,-2.65 -9.785,-2.65 ; -10.535,2.65 -9.785,2.65 ; -7.995,-2.65 -7.245,-2.65 ; -7.995,2.65 -7.245,2.65 ; -5.455,-2.65 -4.705,-2.65 ; -5.455,2.65 -4.705,2.65 ; -2.915,-2.65 -2.165,-2.65 ; -2.915,2.65 -2.165,2.65 ; -0.375,-2.65 0.375,-2.65 ; -0.375,2.65 0.375,2.65 ; 2.165,-2.65 2.915,-2.65 ; 2.165,2.65 2.915,2.65 ; 4.705,-2.65 5.455,-2.65 ; 4.705,2.65 5.455,2.65 ; 7.245,-2.65 7.995,-2.65 ; 7.245,2.65 7.995,2.65 ; 9.785,-2.65 10.535,-2.65 ; 9.785,2.65 10.535,2.65 ; 12.325,-2.65 13.075,-2.65 ; 12.325,2.65 13.075,2.65 ; 14.865,-2.65 15.615,-2.65 ; 14.865,2.65 15.615,2.65 ; 17.405,-2.65 18.155,-2.65 ; 17.405,2.65 18.155,2.65 ; 19.945,-2.65 20.695,-2.65 ; 19.945,2.65 20.695,2.65 ; 22.485,-2.65 22.97,-2.65 22.97,2.65 22.485,2.65
Top Assembly:
  lines w0.254: -22.09,2.54 -21.59,1.833 -21.09,2.54 ; -22.86,-2.54 22.86,-2.54 22.86,2.54 -22.86,2.54 -22.86,-2.54
  text "'.Designator'" at -4.047,-2.68 h1
Top Courtyard:
  lines w0.254: -23.36,-4.17 23.36,-4.17 23.36,4.17 -23.36,4.17 -23.36,-4.17
Top Designator:
  text ".Designator" at -7.618,-0.508 h1.52

## Samtec_HLE-118-02-xxx-DV-BE-A_2x18_P2.54mm_Horizontal [mm]
pads (74):
  rect 1.27x1.68 smd: 1(-21.59,2.72) 2(-21.59,-2.72) 3(-19.05,2.72) 4(-19.05,-2.72) 5(-16.51,2.72) 6(-16.51,-2.72) 7(-13.97,2.72) 8(-13.97,-2.72) 9(-11.43,2.72) 10(-11.43,-2.72) 11(-8.89,2.72) 12(-8.89,-2.72) 13(-6.35,2.72) 14(-6.35,-2.72) 15(-3.81,2.72) 16(-3.81,-2.72) 17(-1.27,2.72) 18(-1.27,-2.72) 19(1.27,2.72) 20(1.27,-2.72) 21(3.81,2.72) 22(3.81,-2.72) 23(6.35,2.72) 24(6.35,-2.72) 25(8.89,2.72) 26(8.89,-2.72) 27(11.43,2.72) 28(11.43,-2.72) 29(13.97,2.72) 30(13.97,-2.72) 31(16.51,2.72) 32(16.51,-2.72) 33(19.05,2.72) 34(19.05,-2.72) 35(21.59,2.72) 36(21.59,-2.72)
  round 0.97 hole 0.97: Un1(-21.59,1.27) Un2(-21.59,-1.27) Un4(-19.05,1.27) Un5(-19.05,-1.27) Un6(-16.51,1.27) Un7(-16.51,-1.27) Un8(-13.97,1.27) Un9(-13.97,-1.27) Un10(-11.43,1.27) Un11(-11.43,-1.27) Un12(-8.89,1.27) Un13(-8.89,-1.27) Un14(-6.35,1.27) Un15(-6.35,-1.27) Un16(-3.81,1.27) Un17(-3.81,-1.27) Un18(-1.27,1.27) Un19(-1.27,-1.27) Un20(1.27,1.27) Un21(1.27,-1.27) Un22(3.81,1.27) Un23(3.81,-1.27) Un24(6.35,1.27) Un25(6.35,-1.27) Un26(8.89,1.27) Un27(8.89,-1.27) Un28(11.43,1.27) Un29(11.43,-1.27) Un30(13.97,1.27) Un31(13.97,-1.27) Un32(16.51,1.27) Un33(16.51,-1.27) Un34(19.05,1.27) Un35(19.05,-1.27) Un37(21.59,1.27) Un38(21.59,-1.27)
  round 1.78 hole 1.78: Un3(-20.32,0) Un36(20.32,0)
F.SilkS:
  lines w0.254: -22.485,-2.65 -22.97,-2.65 -22.97,2.65 -22.485,2.65 -22.485,3.56 ; -20.695,-2.65 -19.945,-2.65 ; -20.695,2.65 -19.945,2.65 ; -18.155,-2.65 -17.405,-2.65 ; -18.155,2.65 -17.405,2.65 ; -15.615,-2.65 -14.865,-2.65 ; -15.615,2.65 -14.865,2.65 ; -13.075,-2.65 -12.325,-2.65 ; -13.075,2.65 -12.325,2.65 ; -10.535,-2.65 -9.785,-2.65 ; -10.535,2.65 -9.785,2.65 ; -7.995,-2.65 -7.245,-2.65 ; -7.995,2.65 -7.245,2.65 ; -5.455,-2.65 -4.705,-2.65 ; -5.455,2.65 -4.705,2.65 ; -2.915,-2.65 -2.165,-2.65 ; -2.915,2.65 -2.165,2.65 ; -0.375,-2.65 0.375,-2.65 ; -0.375,2.65 0.375,2.65 ; 2.165,-2.65 2.915,-2.65 ; 2.165,2.65 2.915,2.65 ; 4.705,-2.65 5.455,-2.65 ; 4.705,2.65 5.455,2.65 ; 7.245,-2.65 7.995,-2.65 ; 7.245,2.65 7.995,2.65 ; 9.785,-2.65 10.535,-2.65 ; 9.785,2.65 10.535,2.65 ; 12.325,-2.65 13.075,-2.65 ; 12.325,2.65 13.075,2.65 ; 14.865,-2.65 15.615,-2.65 ; 14.865,2.65 15.615,2.65 ; 17.405,-2.65 18.155,-2.65 ; 17.405,2.65 18.155,2.65 ; 19.945,-2.65 20.695,-2.65 ; 19.945,2.65 20.695,2.65 ; 22.485,-2.65 22.97,-2.65 22.97,2.65 22.485,2.65
Top Assembly:
  lines w0.254: -22.09,2.54 -21.59,1.833 -21.09,2.54 ; -22.86,-2.54 22.86,-2.54 22.86,2.54 -22.86,2.54 -22.86,-2.54
  text "'.Designator'" at -4.047,-2.68 h1
Top Courtyard:
  lines w0.254: -23.36,-4.07 23.36,-4.07 23.36,4.07 -23.36,4.07 -23.36,-4.07
Top Designator:
  text ".Designator" at -7.618,-0.508 h1.52

## Samtec_HLE-118-02-xxx-DV-BE-LC_2x18_P2.54mm_Horizontal [mm]
pads (74):
  rect 1.27x1.68 smd: 1(-21.59,2.72) 2(-21.59,-2.72) 3(-19.05,2.72) 4(-19.05,-2.72) 5(-16.51,2.72) 6(-16.51,-2.72) 7(-13.97,2.72) 8(-13.97,-2.72) 9(-11.43,2.72) 10(-11.43,-2.72) 11(-8.89,2.72) 12(-8.89,-2.72) 13(-6.35,2.72) 14(-6.35,-2.72) 15(-3.81,2.72) 16(-3.81,-2.72) 17(-1.27,2.72) 18(-1.27,-2.72) 19(1.27,2.72) 20(1.27,-2.72) 21(3.81,2.72) 22(3.81,-2.72) 23(6.35,2.72) 24(6.35,-2.72) 25(8.89,2.72) 26(8.89,-2.72) 27(11.43,2.72) 28(11.43,-2.72) 29(13.97,2.72) 30(13.97,-2.72) 31(16.51,2.72) 32(16.51,-2.72) 33(19.05,2.72) 34(19.05,-2.72) 35(21.59,2.72) 36(21.59,-2.72)
  round 0.97 hole 0.97: Un1(-21.59,1.27) Un2(-21.59,-1.27) Un4(-19.05,1.27) Un5(-19.05,-1.27) Un6(-16.51,1.27) Un7(-16.51,-1.27) Un8(-13.97,1.27) Un9(-13.97,-1.27) Un10(-11.43,1.27) Un11(-11.43,-1.27) Un12(-8.89,1.27) Un13(-8.89,-1.27) Un14(-6.35,1.27) Un15(-6.35,-1.27) Un16(-3.81,1.27) Un17(-3.81,-1.27) Un18(-1.27,1.27) Un19(-1.27,-1.27) Un20(1.27,1.27) Un21(1.27,-1.27) Un22(3.81,1.27) Un23(3.81,-1.27) Un24(6.35,1.27) Un25(6.35,-1.27) Un26(8.89,1.27) Un27(8.89,-1.27) Un28(11.43,1.27) Un29(11.43,-1.27) Un30(13.97,1.27) Un31(13.97,-1.27) Un32(16.51,1.27) Un33(16.51,-1.27) Un34(19.05,1.27) Un35(19.05,-1.27) Un37(21.59,1.27) Un38(21.59,-1.27)
  round 1.19 hole 1.19: Un3(-20.32,0) Un36(20.32,0)
F.SilkS:
  lines w0.254: -22.485,-2.65 -22.97,-2.65 -22.97,2.65 -22.485,2.65 -22.485,3.56 ; -20.695,-2.65 -19.945,-2.65 ; -20.695,2.65 -19.945,2.65 ; -18.155,-2.65 -17.405,-2.65 ; -18.155,2.65 -17.405,2.65 ; -15.615,-2.65 -14.865,-2.65 ; -15.615,2.65 -14.865,2.65 ; -13.075,-2.65 -12.325,-2.65 ; -13.075,2.65 -12.325,2.65 ; -10.535,-2.65 -9.785,-2.65 ; -10.535,2.65 -9.785,2.65 ; -7.995,-2.65 -7.245,-2.65 ; -7.995,2.65 -7.245,2.65 ; -5.455,-2.65 -4.705,-2.65 ; -5.455,2.65 -4.705,2.65 ; -2.915,-2.65 -2.165,-2.65 ; -2.915,2.65 -2.165,2.65 ; -0.375,-2.65 0.375,-2.65 ; -0.375,2.65 0.375,2.65 ; 2.165,-2.65 2.915,-2.65 ; 2.165,2.65 2.915,2.65 ; 4.705,-2.65 5.455,-2.65 ; 4.705,2.65 5.455,2.65 ; 7.245,-2.65 7.995,-2.65 ; 7.245,2.65 7.995,2.65 ; 9.785,-2.65 10.535,-2.65 ; 9.785,2.65 10.535,2.65 ; 12.325,-2.65 13.075,-2.65 ; 12.325,2.65 13.075,2.65 ; 14.865,-2.65 15.615,-2.65 ; 14.865,2.65 15.615,2.65 ; 17.405,-2.65 18.155,-2.65 ; 17.405,2.65 18.155,2.65 ; 19.945,-2.65 20.695,-2.65 ; 19.945,2.65 20.695,2.65 ; 22.485,-2.65 22.97,-2.65 22.97,2.65 22.485,2.65
Top Assembly:
  lines w0.254: -22.09,2.54 -21.59,1.833 -21.09,2.54 ; -22.86,-2.54 22.86,-2.54 22.86,2.54 -22.86,2.54 -22.86,-2.54
  text "'.Designator'" at -4.047,-2.68 h1
Top Courtyard:
  lines w0.254: -23.36,-4.07 23.36,-4.07 23.36,4.07 -23.36,4.07 -23.36,-4.07
Top Designator:
  text ".Designator" at -7.618,-0.508 h1.52

## Samtec_HLE-118-02-xxx-DV-BE_2x18_P2.54mm_Horizontal [mm]
pads (72):
  rect 1.27x1.68 smd: 1(-21.59,2.72) 2(-21.59,-2.72) 3(-19.05,2.72) 4(-19.05,-2.72) 5(-16.51,2.72) 6(-16.51,-2.72) 7(-13.97,2.72) 8(-13.97,-2.72) 9(-11.43,2.72) 10(-11.43,-2.72) 11(-8.89,2.72) 12(-8.89,-2.72) 13(-6.35,2.72) 14(-6.35,-2.72) 15(-3.81,2.72) 16(-3.81,-2.72) 17(-1.27,2.72) 18(-1.27,-2.72) 19(1.27,2.72) 20(1.27,-2.72) 21(3.81,2.72) 22(3.81,-2.72) 23(6.35,2.72) 24(6.35,-2.72) 25(8.89,2.72) 26(8.89,-2.72) 27(11.43,2.72) 28(11.43,-2.72) 29(13.97,2.72) 30(13.97,-2.72) 31(16.51,2.72) 32(16.51,-2.72) 33(19.05,2.72) 34(19.05,-2.72) 35(21.59,2.72) 36(21.59,-2.72)
  round 0.97 hole 0.97: Un1(-21.59,1.27) Un2(-21.59,-1.27) Un3(-19.05,1.27) Un4(-19.05,-1.27) Un5(-16.51,1.27) Un6(-16.51,-1.27) Un7(-13.97,1.27) Un8(-13.97,-1.27) Un9(-11.43,1.27) Un10(-11.43,-1.27) Un11(-8.89,1.27) Un12(-8.89,-1.27) Un13(-6.35,1.27) Un14(-6.35,-1.27) Un15(-3.81,1.27) Un16(-3.81,-1.27) Un17(-1.27,1.27) Un18(-1.27,-1.27) Un19(1.27,1.27) Un20(1.27,-1.27) Un21(3.81,1.27) Un22(3.81,-1.27) Un23(6.35,1.27) Un24(6.35,-1.27) Un25(8.89,1.27) Un26(8.89,-1.27) Un27(11.43,1.27) Un28(11.43,-1.27) Un29(13.97,1.27) Un30(13.97,-1.27) Un31(16.51,1.27) Un32(16.51,-1.27) Un33(19.05,1.27) Un34(19.05,-1.27) Un35(21.59,1.27) Un36(21.59,-1.27)
F.SilkS:
  lines w0.254: -22.485,-2.65 -22.97,-2.65 -22.97,2.65 -22.485,2.65 -22.485,3.56 ; -20.695,-2.65 -19.945,-2.65 ; -20.695,2.65 -19.945,2.65 ; -18.155,-2.65 -17.405,-2.65 ; -18.155,2.65 -17.405,2.65 ; -15.615,-2.65 -14.865,-2.65 ; -15.615,2.65 -14.865,2.65 ; -13.075,-2.65 -12.325,-2.65 ; -13.075,2.65 -12.325,2.65 ; -10.535,-2.65 -9.785,-2.65 ; -10.535,2.65 -9.785,2.65 ; -7.995,-2.65 -7.245,-2.65 ; -7.995,2.65 -7.245,2.65 ; -5.455,-2.65 -4.705,-2.65 ; -5.455,2.65 -4.705,2.65 ; -2.915,-2.65 -2.165,-2.65 ; -2.915,2.65 -2.165,2.65 ; -0.375,-2.65 0.375,-2.65 ; -0.375,2.65 0.375,2.65 ; 2.165,-2.65 2.915,-2.65 ; 2.165,2.65 2.915,2.65 ; 4.705,-2.65 5.455,-2.65 ; 4.705,2.65 5.455,2.65 ; 7.245,-2.65 7.995,-2.65 ; 7.245,2.65 7.995,2.65 ; 9.785,-2.65 10.535,-2.65 ; 9.785,2.65 10.535,2.65 ; 12.325,-2.65 13.075,-2.65 ; 12.325,2.65 13.075,2.65 ; 14.865,-2.65 15.615,-2.65 ; 14.865,2.65 15.615,2.65 ; 17.405,-2.65 18.155,-2.65 ; 17.405,2.65 18.155,2.65 ; 19.945,-2.65 20.695,-2.65 ; 19.945,2.65 20.695,2.65 ; 22.485,-2.65 22.97,-2.65 22.97,2.65 22.485,2.65
Top Assembly:
  lines w0.254: -22.09,2.54 -21.59,1.833 -21.09,2.54 ; -22.86,-2.54 22.86,-2.54 22.86,2.54 -22.86,2.54 -22.86,-2.54
  text "'.Designator'" at -4.047,-2.68 h1
Top Courtyard:
  lines w0.254: -23.36,-4.07 23.36,-4.07 23.36,4.07 -23.36,4.07 -23.36,-4.07
Top Designator:
  text ".Designator" at -7.618,-0.508 h1.52